# Altium footprint library TP_Keystone_Electronics_5006.PcbLib: 1 footprints
Each footprint in its own frame and in the unit in brackets; x right, y up, seen from the top. Pads: shape width x height; smd on the part's side, far side on the other; paste and mask are expansions set on the pad; w line width, h text height; cw(c..) or ccw(c..) is an arc to the next point about the centre after c.
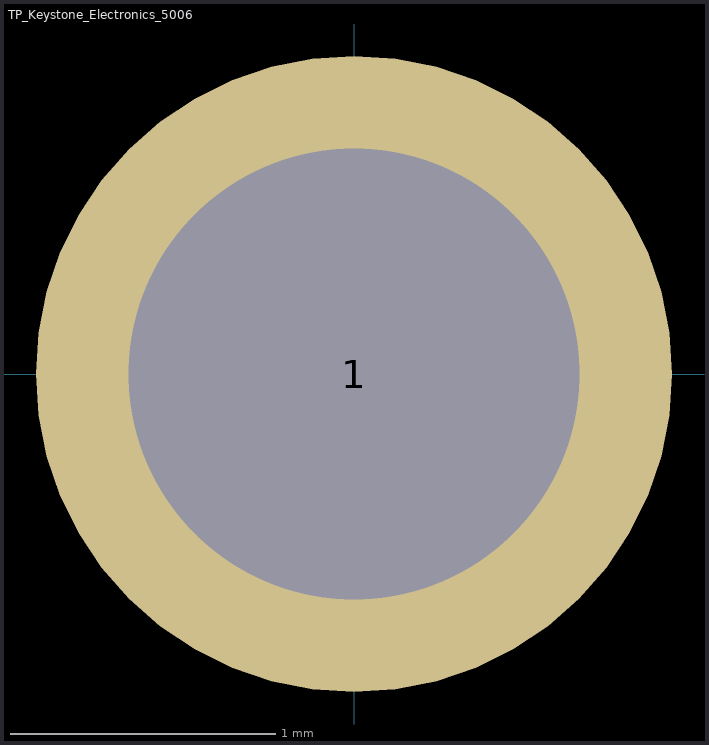
[diagram p0: the footprint, top view; thin cyan lines are the x and y axes]

## TP_Keystone_Electronics_5006 [mm]
pads (1):
  round 2.4 hole 1.7: 1(0,0)
3D body "keystone-PN5006.STEP": height 5.52, standoff -3.39, extent -1.585,-1.592 1.59,1.583